# Altium integrated library NSC Temperature Sensor.IntLib: 347 symbols (part 3 of 9)
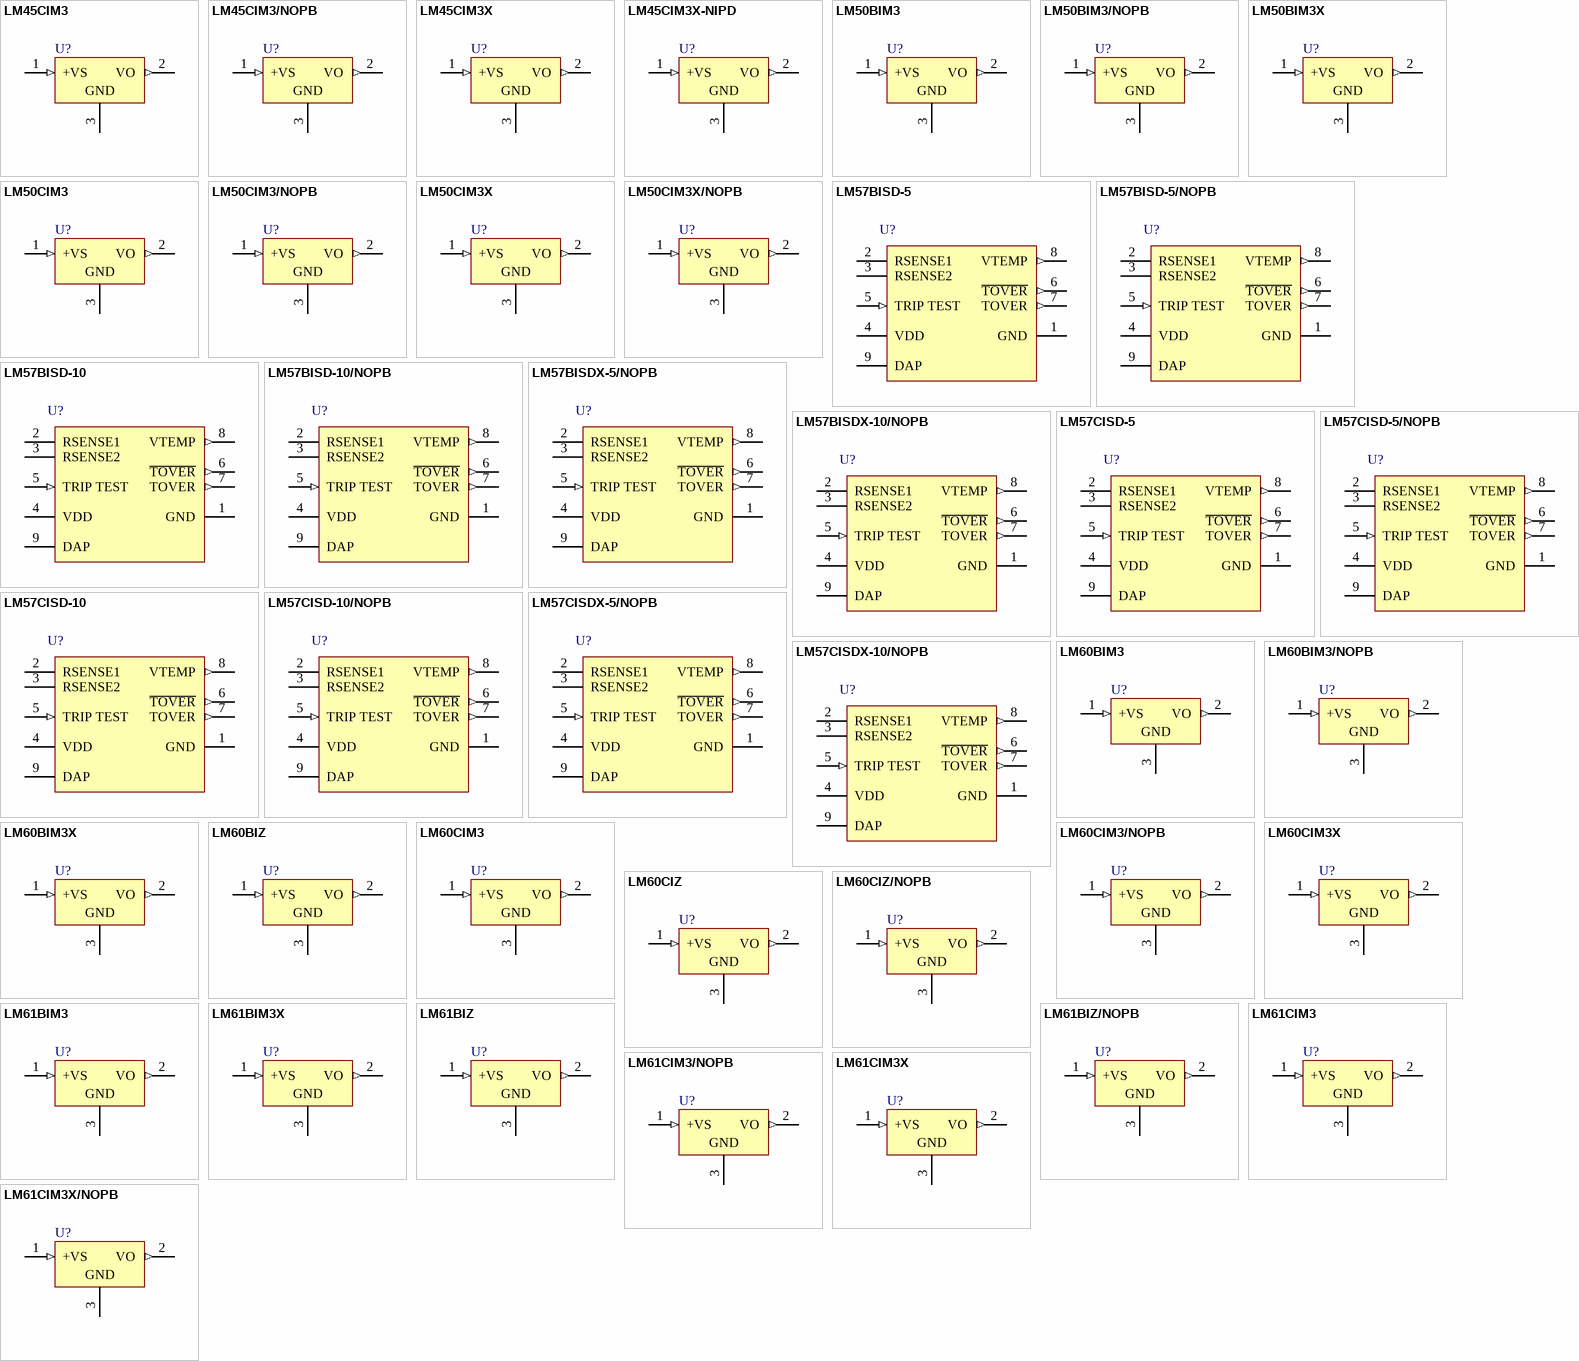
[diagram p11: symbols LM45CIM3 to LM61CIM3X/NOPB]

## LM45CIM3X-NIPD
designator U?
Precision Centigrade Temperature Sensor, 3-pin SOT-23; PartNumber: LM45CIM3X-NIPD; Manufacturer: National Semiconductor; PackageTopMarking: T4N*XTT; PowerWise: N; CompType: Temp Sensor IC; Published: 4-Dec-2008; DatasheetVersion: Aug-2005; PackageVersion: revB, Mar-2003; PackageReference: MF03A; Publisher: Altium Limited; PackageDescription: Molded SOT-23, .115 x .051 x .037in Body, 3 Lead, .075 in Pitch; RoHS: Y; PinCount: 3; ComponentLink1Description: LM45 Datasheet; ComponentLink1URL: http://www.national.com/ds/LM/LM45.pdf; ComponentLink2Description: LM45 Web Page; ComponentLink2URL: http://www.national.com/pf/LM/LM45.html; ComponentLink3Description: MF03A Package Page; ComponentLink3URL: http://www.national.com/packaging/folders/mf03a.html
footprint MF03A_N (SOT23, 3-Leads, Body 2.9x1.3mm, Pitch 0.95mm, Lead Span 2.4mm, IPC Medium Density)
footprint MF03A_L (SOT23, 3-Leads, Body 2.9x1.3mm, Pitch 0.95mm, Lead Span 2.4mm, IPC High Density)
footprint MF03A_M (SOT23, 3-Leads, Body 2.9x1.3mm, Pitch 0.95mm, Lead Span 2.4mm, IPC Low Density)
pins: 1 +VS (in), 2 VO (out), 3 GND (power)

## LM50BIM3
designator U?
Single-Supply Centigrade Temperature Sensor, 3-pin SOT-23; PartNumber: LM50BIM3; Manufacturer: National Semiconductor; PackageTopMarking: T5B*XTT; PowerWise: N; CompType: Temp Sensor IC; Published: 4-Dec-2008; DatasheetVersion: Feb-2006; PackageVersion: revB, Mar-2003; PackageReference: MF03A; Publisher: Altium Limited; PackageDescription: Molded SOT-23, .115 x .051 x .037in Body, 3 Lead, .075 in Pitch; Supplier 1: Digi-Key; Supplier Part Number 1: LM50BIM3-ND; Supplier 2: Farnell; Supplier Part Number 2: 9779884; Supplier 3: Farnell; Supplier Part Number 3: 9779884RL; RoHS: N; PinCount: 3; ComponentLink1Description: LM50 Datasheet; ComponentLink1URL: http://www.national.com/ds/LM/LM50.pdf; ComponentLink2Description: LM50 Web Page; ComponentLink2URL: http://www.national.com/pf/LM/LM50.html; ComponentLink3Description: MF03A Package Page; ComponentLink3URL: http://www.national.com/packaging/folders/mf03a.html
footprint MF03A_N (SOT23, 3-Leads, Body 2.9x1.3mm, Pitch 0.95mm, Lead Span 2.4mm, IPC Medium Density)
footprint MF03A_L (SOT23, 3-Leads, Body 2.9x1.3mm, Pitch 0.95mm, Lead Span 2.4mm, IPC High Density)
footprint MF03A_M (SOT23, 3-Leads, Body 2.9x1.3mm, Pitch 0.95mm, Lead Span 2.4mm, IPC Low Density)
pins: 1 +VS (in), 2 VO (out), 3 GND (power)

## LM50BIM3/NOPB
designator U?
Single-Supply Centigrade Temperature Sensor, 3-pin SOT-23, Pb-Free; PartNumber: LM50BIM3/NOPB; Manufacturer: National Semiconductor; PackageTopMarking: T5B*XTT; PowerWise: N; CompType: Temp Sensor IC; Published: 1-Mar-2010; DatasheetVersion: Feb-2006; PackageVersion: revB, Mar-2003; PackageReference: MF03A; Publisher: Altium Limited; PackageDescription: Molded SOT-23, .115 x .051 x .037in Body, 3 Lead, .075 in Pitch; Supplier 1: Digi-Key; Supplier Part Number 1: LM50BIM3/NOPBTR-ND; Supplier 2: Digi-Key; Supplier Part Number 2: LM50BIM3/NOPBCT-ND; Supplier 3: Digi-Key; Supplier Part Number 3: LM50BIM3/NOPBDKR-ND; Supplier 4: Farnell; Supplier Part Number 4: 1469240; RoHS: Y; PinCount: 3; ComponentLink1Description: LM50 Datasheet; ComponentLink1URL: http://www.national.com/ds/LM/LM50.pdf; ComponentLink2Description: LM50 Web Page; ComponentLink2URL: http://www.national.com/pf/LM/LM50.html; ComponentLink3Description: MF03A Package Page; ComponentLink3URL: http://www.national.com/packaging/folders/mf03a.html
footprint MF03A_N (SOT23, 3-Leads, Body 2.9x1.3mm, Pitch 0.95mm, Lead Span 2.4mm, IPC Medium Density)
footprint MF03A_L (SOT23, 3-Leads, Body 2.9x1.3mm, Pitch 0.95mm, Lead Span 2.4mm, IPC High Density)
footprint MF03A_M (SOT23, 3-Leads, Body 2.9x1.3mm, Pitch 0.95mm, Lead Span 2.4mm, IPC Low Density)
pins: 1 +VS (in), 2 VO (out), 3 GND (power)

## LM50BIM3X
designator U?
Single-Supply Centigrade Temperature Sensor, 3-pin SOT-23; PartNumber: LM50BIM3X; Manufacturer: National Semiconductor; PackageTopMarking: T5B*XTT; PowerWise: N; CompType: Temp Sensor IC; Published: 1-Mar-2010; DatasheetVersion: Feb-2006; PackageVersion: revB, Mar-2003; PackageReference: MF03A; Publisher: Altium Limited; PackageDescription: Molded SOT-23, .115 x .051 x .037in Body, 3 Lead, .075 in Pitch; Supplier 1: Digi-Key; Supplier Part Number 1: LM50BIM3XTR-ND; Supplier 2: Digi-Key; Supplier Part Number 2: LM50BIM3XCT-ND; RoHS: N; PinCount: 3; ComponentLink1Description: LM50 Datasheet; ComponentLink1URL: http://www.national.com/ds/LM/LM50.pdf; ComponentLink2Description: LM50 Web Page; ComponentLink2URL: http://www.national.com/pf/LM/LM50.html; ComponentLink3Description: MF03A Package Page; ComponentLink3URL: http://www.national.com/packaging/folders/mf03a.html
footprint MF03A_N (SOT23, 3-Leads, Body 2.9x1.3mm, Pitch 0.95mm, Lead Span 2.4mm, IPC Medium Density)
footprint MF03A_L (SOT23, 3-Leads, Body 2.9x1.3mm, Pitch 0.95mm, Lead Span 2.4mm, IPC High Density)
footprint MF03A_M (SOT23, 3-Leads, Body 2.9x1.3mm, Pitch 0.95mm, Lead Span 2.4mm, IPC Low Density)
pins: 1 +VS (in), 2 VO (out), 3 GND (power)

## LM50CIM3
designator U?
Single-Supply Centigrade Temperature Sensor, 3-pin SOT-23; PartNumber: LM50CIM3; Manufacturer: National Semiconductor; PackageTopMarking: T5C*XTT; PowerWise: N; CompType: Temp Sensor IC; Published: 4-Dec-2008; DatasheetVersion: Feb-2006; PackageVersion: revB, Mar-2003; PackageReference: MF03A; Publisher: Altium Limited; PackageDescription: Molded SOT-23, .115 x .051 x .037in Body, 3 Lead, .075 in Pitch; Supplier 1: Farnell; Supplier Part Number 1: 9779620; Supplier 2: Farnell; Supplier Part Number 2: 9779620RL; RoHS: N; PinCount: 3; ComponentLink1Description: LM50 Datasheet; ComponentLink1URL: http://www.national.com/ds/LM/LM50.pdf; ComponentLink2Description: LM50 Web Page; ComponentLink2URL: http://www.national.com/pf/LM/LM50.html; ComponentLink3Description: MF03A Package Page; ComponentLink3URL: http://www.national.com/packaging/folders/mf03a.html
footprint MF03A_N (SOT23, 3-Leads, Body 2.9x1.3mm, Pitch 0.95mm, Lead Span 2.4mm, IPC Medium Density)
footprint MF03A_L (SOT23, 3-Leads, Body 2.9x1.3mm, Pitch 0.95mm, Lead Span 2.4mm, IPC High Density)
footprint MF03A_M (SOT23, 3-Leads, Body 2.9x1.3mm, Pitch 0.95mm, Lead Span 2.4mm, IPC Low Density)
pins: 1 +VS (in), 2 VO (out), 3 GND (power)

## LM50CIM3/NOPB
designator U?
Single-Supply Centigrade Temperature Sensor, 3-pin SOT-23, Pb-Free; PartNumber: LM50CIM3/NOPB; Manufacturer: National Semiconductor; PackageTopMarking: T5C*XTT; PowerWise: N; CompType: Temp Sensor IC; Published: 1-Mar-2010; DatasheetVersion: Feb-2006; PackageVersion: revB, Mar-2003; PackageReference: MF03A; Publisher: Altium Limited; PackageDescription: Molded SOT-23, .115 x .051 x .037in Body, 3 Lead, .075 in Pitch; Supplier 1: Digi-Key; Supplier Part Number 1: LM50CIM3TR-ND; Supplier 2: Digi-Key; Supplier Part Number 2: LM50CIM3CT-ND; Supplier 3: Digi-Key; Supplier Part Number 3: LM50CIM3DKR-ND; Supplier 4: Farnell; Supplier Part Number 4: 1469220; RoHS: Y; PinCount: 3; ComponentLink1Description: LM50 Datasheet; ComponentLink1URL: http://www.national.com/ds/LM/LM50.pdf; ComponentLink2Description: LM50 Web Page; ComponentLink2URL: http://www.national.com/pf/LM/LM50.html; ComponentLink3Description: MF03A Package Page; ComponentLink3URL: http://www.national.com/packaging/folders/mf03a.html
footprint MF03A_N (SOT23, 3-Leads, Body 2.9x1.3mm, Pitch 0.95mm, Lead Span 2.4mm, IPC Medium Density)
footprint MF03A_L (SOT23, 3-Leads, Body 2.9x1.3mm, Pitch 0.95mm, Lead Span 2.4mm, IPC High Density)
footprint MF03A_M (SOT23, 3-Leads, Body 2.9x1.3mm, Pitch 0.95mm, Lead Span 2.4mm, IPC Low Density)
pins: 1 +VS (in), 2 VO (out), 3 GND (power)

## LM50CIM3X
designator U?
Single-Supply Centigrade Temperature Sensor, 3-pin SOT-23; PartNumber: LM50CIM3X; Manufacturer: National Semiconductor; PackageTopMarking: T5C*XTT; PowerWise: N; CompType: Temp Sensor IC; Published: 1-Mar-2010; DatasheetVersion: Feb-2006; PackageVersion: revB, Mar-2003; PackageReference: MF03A; Publisher: Altium Limited; PackageDescription: Molded SOT-23, .115 x .051 x .037in Body, 3 Lead, .075 in Pitch; RoHS: N; PinCount: 3; ComponentLink1Description: LM50 Datasheet; ComponentLink1URL: http://www.national.com/ds/LM/LM50.pdf; ComponentLink2Description: LM50 Web Page; ComponentLink2URL: http://www.national.com/pf/LM/LM50.html; ComponentLink3Description: MF03A Package Page; ComponentLink3URL: http://www.national.com/packaging/folders/mf03a.html
footprint MF03A_N (SOT23, 3-Leads, Body 2.9x1.3mm, Pitch 0.95mm, Lead Span 2.4mm, IPC Medium Density)
footprint MF03A_L (SOT23, 3-Leads, Body 2.9x1.3mm, Pitch 0.95mm, Lead Span 2.4mm, IPC High Density)
footprint MF03A_M (SOT23, 3-Leads, Body 2.9x1.3mm, Pitch 0.95mm, Lead Span 2.4mm, IPC Low Density)
pins: 1 +VS (in), 2 VO (out), 3 GND (power)

## LM50CIM3X/NOPB
designator U?
Single-Supply Centigrade Temperature Sensor, 3-pin SOT-23, Pb-Free; PartNumber: LM50CIM3X/NOPB; Manufacturer: National Semiconductor; PackageTopMarking: T5C*XTT; PowerWise: N; CompType: Temp Sensor IC; Published: 1-Mar-2010; DatasheetVersion: Feb-2006; PackageVersion: revB, Mar-2003; PackageReference: MF03A; Publisher: Altium Limited; PackageDescription: Molded SOT-23, .115 x .051 x .037in Body, 3 Lead, .075 in Pitch; Supplier 1: Digi-Key; Supplier Part Number 1: LM50CIM3X-ND; Supplier 2: Farnell; Supplier Part Number 2: 1496178; RoHS: Y; PinCount: 3; ComponentLink1Description: LM50 Datasheet; ComponentLink1URL: http://www.national.com/ds/LM/LM50.pdf; ComponentLink2Description: LM50 Web Page; ComponentLink2URL: http://www.national.com/pf/LM/LM50.html; ComponentLink3Description: MF03A Package Page; ComponentLink3URL: http://www.national.com/packaging/folders/mf03a.html
footprint MF03A_N (SOT23, 3-Leads, Body 2.9x1.3mm, Pitch 0.95mm, Lead Span 2.4mm, IPC Medium Density)
footprint MF03A_L (SOT23, 3-Leads, Body 2.9x1.3mm, Pitch 0.95mm, Lead Span 2.4mm, IPC High Density)
footprint MF03A_M (SOT23, 3-Leads, Body 2.9x1.3mm, Pitch 0.95mm, Lead Span 2.4mm, IPC Low Density)
pins: 1 +VS (in), 2 VO (out), 3 GND (power)

## LM57BISD-5
designator U?
Resistor-Programmable Temperature Switch and Analog Temperature Sensor, 9-pin LLP; PartNumber: LM57BISD-5; Manufacturer: National Semiconductor; PackageTopMarking: XYTT*57B5; PowerWise: Y; CompType: Temp Sensor IC; Published: 9-Oct-2009; DatasheetVersion: Feb-2010; PackageVersion: revA, Nov-2003; PackageReference: SDA08B; Publisher: Altium Limited; PackageDescription: LLP, Plastic, Dual, 2.5 x 2.5 x 0.8mm Body, 8 Lead, 0.5mm Pitch, No Pullback; RoHS: Y; PinCount: 8; ComponentLink1Description: LM57 Datasheet; ComponentLink1URL: http://www.national.com/ds/LM/LM57.pdf; ComponentLink2Description: LM57 Web Page; ComponentLink2URL: http://www.national.com/pf/LM/LM57.html; ComponentLink3Description: SDA08B Package Page; ComponentLink3URL: http://www.national.com/packaging/folders/sda08b.html
footprint SDA08B (SON, 8-Leads, Body 2.5x2.5mm, Pitch 0.5mm, NSC Recommended)
pins: 1 GND (power), 2 RSENSE1, 3 RSENSE2, 4 VDD (power), 5 TRIP TEST (in), 6 ~{TOVER} (out), 7 TOVER (out), 8 VTEMP (out), 9 DAP

## LM57BISD-5/NOPB
designator U?
Resistor-Programmable Temperature Switch and Analog Temperature Sensor, 8-pin LLP, Pb-Free; PartNumber: LM57BISD-5/NOPB; Manufacturer: National Semiconductor; PackageTopMarking: XYTT*57B5; PowerWise: Y; CompType: Temp Sensor IC; Published: 1-Mar-2010; DatasheetVersion: Feb-2010; PackageVersion: revA, Nov-2003; PackageReference: SDA08B; Publisher: Altium Limited; PackageDescription: LLP, Plastic, Dual, 2.5 x 2.5 x 0.8mm Body, 8 Lead, 0.5mm Pitch, No Pullback; Supplier 1: Digi-Key; Supplier Part Number 1: LM57BISD-5TR-ND; Supplier 2: Digi-Key; Supplier Part Number 2: LM57BISD-5CT-ND; Supplier 3: Digi-Key; Supplier Part Number 3: LM57BISD-5DKR-ND; Supplier 4: Farnell; Supplier Part Number 4: 1735804; RoHS: Y; PinCount: 8; ComponentLink1Description: LM57 Datasheet; ComponentLink1URL: http://www.national.com/ds/LM/LM57.pdf; ComponentLink2Description: LM57 Web Page; ComponentLink2URL: http://www.national.com/pf/LM/LM57.html; ComponentLink3Description: SDA08B Package Page; ComponentLink3URL: http://www.national.com/packaging/folders/sda08b.html
footprint SDA08B (SON, 8-Leads, Body 2.5x2.5mm, Pitch 0.5mm, NSC Recommended)
pins: 1 GND (power), 2 RSENSE1, 3 RSENSE2, 4 VDD (power), 5 TRIP TEST (in), 6 ~{TOVER} (out), 7 TOVER (out), 8 VTEMP (out), 9 DAP

## LM57BISD-10
designator U?
Resistor-Programmable Temperature Switch and Analog Temperature Sensor, 9-pin LLP; PartNumber: LM57BISD-10; Manufacturer: National Semiconductor; PackageTopMarking: XYTT*57B9; PowerWise: Y; CompType: Temp Sensor IC; Published: 9-Oct-2009; DatasheetVersion: Feb-2010; PackageVersion: revA, Nov-2003; PackageReference: SDA08B; Publisher: Altium Limited; PackageDescription: LLP, Plastic, Dual, 2.5 x 2.5 x 0.8mm Body, 8 Lead, 0.5mm Pitch, No Pullback; RoHS: Y; PinCount: 8; ComponentLink1Description: LM57 Datasheet; ComponentLink1URL: http://www.national.com/ds/LM/LM57.pdf; ComponentLink2Description: LM57 Web Page; ComponentLink2URL: http://www.national.com/pf/LM/LM57.html; ComponentLink3Description: SDA08B Package Page; ComponentLink3URL: http://www.national.com/packaging/folders/sda08b.html
footprint SDA08B (SON, 8-Leads, Body 2.5x2.5mm, Pitch 0.5mm, NSC Recommended)
pins: 1 GND (power), 2 RSENSE1, 3 RSENSE2, 4 VDD (power), 5 TRIP TEST (in), 6 ~{TOVER} (out), 7 TOVER (out), 8 VTEMP (out), 9 DAP

## LM57BISD-10/NOPB
designator U?
Resistor-Programmable Temperature Switch and Analog Temperature Sensor, 8-pin LLP, Pb-Free; PartNumber: LM57BISD-10/NOPB; Manufacturer: National Semiconductor; PackageTopMarking: XYTT*57B9; PowerWise: Y; CompType: Temp Sensor IC; Published: 1-Mar-2010; DatasheetVersion: Feb-2010; PackageVersion: revA, Nov-2003; PackageReference: SDA08B; Publisher: Altium Limited; PackageDescription: LLP, Plastic, Dual, 2.5 x 2.5 x 0.8mm Body, 8 Lead, 0.5mm Pitch, No Pullback; Supplier 1: Digi-Key; Supplier Part Number 1: LM57BISD-10TR-ND; Supplier 2: Digi-Key; Supplier Part Number 2: LM57BISD-10CT-ND; Supplier 3: Digi-Key; Supplier Part Number 3: LM57BISD-10DKR-ND; Supplier 4: Farnell; Supplier Part Number 4: 1735803; RoHS: Y; PinCount: 8; ComponentLink1Description: LM57 Datasheet; ComponentLink1URL: http://www.national.com/ds/LM/LM57.pdf; ComponentLink2Description: LM57 Web Page; ComponentLink2URL: http://www.national.com/pf/LM/LM57.html; ComponentLink3Description: SDA08B Package Page; ComponentLink3URL: http://www.national.com/packaging/folders/sda08b.html
footprint SDA08B (SON, 8-Leads, Body 2.5x2.5mm, Pitch 0.5mm, NSC Recommended)
pins: 1 GND (power), 2 RSENSE1, 3 RSENSE2, 4 VDD (power), 5 TRIP TEST (in), 6 ~{TOVER} (out), 7 TOVER (out), 8 VTEMP (out), 9 DAP

## LM57BISDX-5/NOPB
designator U?
Resistor-Programmable Temperature Switch and Analog Temperature Sensor, 8-pin LLP, Pb-Free; PartNumber: LM57BISDX-5/NOPB; Manufacturer: National Semiconductor; PackageTopMarking: XYTT*57B5; PowerWise: Y; CompType: Temp Sensor IC; Published: 1-Mar-2010; DatasheetVersion: Feb-2010; PackageVersion: revA, Nov-2003; PackageReference: SDA08B; Publisher: Altium Limited; PackageDescription: LLP, Plastic, Dual, 2.5 x 2.5 x 0.8mm Body, 8 Lead, 0.5mm Pitch, No Pullback; Supplier 1: Digi-Key; Supplier Part Number 1: LM57BISDX-5-ND; RoHS: Y; PinCount: 8; ComponentLink1Description: LM57 Datasheet; ComponentLink1URL: http://www.national.com/ds/LM/LM57.pdf; ComponentLink2Description: LM57 Web Page; ComponentLink2URL: http://www.national.com/pf/LM/LM57.html; ComponentLink3Description: SDA08B Package Page; ComponentLink3URL: http://www.national.com/packaging/folders/sda08b.html
footprint SDA08B (SON, 8-Leads, Body 2.5x2.5mm, Pitch 0.5mm, NSC Recommended)
pins: 1 GND (power), 2 RSENSE1, 3 RSENSE2, 4 VDD (power), 5 TRIP TEST (in), 6 ~{TOVER} (out), 7 TOVER (out), 8 VTEMP (out), 9 DAP

## LM57BISDX-10/NOPB
designator U?
Resistor-Programmable Temperature Switch and Analog Temperature Sensor, 8-pin LLP, Pb-Free; PartNumber: LM57BISDX-10/NOPB; Manufacturer: National Semiconductor; PackageTopMarking: XYTT*57B9; PowerWise: Y; CompType: Temp Sensor IC; Published: 1-Mar-2010; DatasheetVersion: Feb-2010; PackageVersion: revA, Nov-2003; PackageReference: SDA08B; Publisher: Altium Limited; PackageDescription: LLP, Plastic, Dual, 2.5 x 2.5 x 0.8mm Body, 8 Lead, 0.5mm Pitch, No Pullback; Supplier 1: Digi-Key; Supplier Part Number 1: LM57BISDX-10-ND; RoHS: Y; PinCount: 8; ComponentLink1Description: LM57 Datasheet; ComponentLink1URL: http://www.national.com/ds/LM/LM57.pdf; ComponentLink2Description: LM57 Web Page; ComponentLink2URL: http://www.national.com/pf/LM/LM57.html; ComponentLink3Description: SDA08B Package Page; ComponentLink3URL: http://www.national.com/packaging/folders/sda08b.html
footprint SDA08B (SON, 8-Leads, Body 2.5x2.5mm, Pitch 0.5mm, NSC Recommended)
pins: 1 GND (power), 2 RSENSE1, 3 RSENSE2, 4 VDD (power), 5 TRIP TEST (in), 6 ~{TOVER} (out), 7 TOVER (out), 8 VTEMP (out), 9 DAP

## LM57CISD-5
designator U?
Resistor-Programmable Temperature Switch and Analog Temperature Sensor, 9-pin LLP; PartNumber: LM57CISD-5; Manufacturer: National Semiconductor; PackageTopMarking: XYTT*57C5; PowerWise: Y; CompType: Temp Sensor IC; Published: 9-Oct-2009; DatasheetVersion: Feb-2010; PackageVersion: revA, Nov-2003; PackageReference: SDA08B; Publisher: Altium Limited; PackageDescription: LLP, Plastic, Dual, 2.5 x 2.5 x 0.8mm Body, 8 Lead, 0.5mm Pitch, No Pullback; RoHS: Y; PinCount: 8; ComponentLink1Description: LM57 Datasheet; ComponentLink1URL: http://www.national.com/ds/LM/LM57.pdf; ComponentLink2Description: LM57 Web Page; ComponentLink2URL: http://www.national.com/pf/LM/LM57.html; ComponentLink3Description: SDA08B Package Page; ComponentLink3URL: http://www.national.com/packaging/folders/sda08b.html
footprint SDA08B (SON, 8-Leads, Body 2.5x2.5mm, Pitch 0.5mm, NSC Recommended)
pins: 1 GND (power), 2 RSENSE1, 3 RSENSE2, 4 VDD (power), 5 TRIP TEST (in), 6 ~{TOVER} (out), 7 TOVER (out), 8 VTEMP (out), 9 DAP

## LM57CISD-5/NOPB
designator U?
Resistor-Programmable Temperature Switch and Analog Temperature Sensor, 8-pin LLP, Pb-Free; PartNumber: LM57CISD-5/NOPB; Manufacturer: National Semiconductor; PackageTopMarking: XYTT*57C5; PowerWise: Y; CompType: Temp Sensor IC; Published: 1-Mar-2010; DatasheetVersion: Feb-2010; PackageVersion: revA, Nov-2003; PackageReference: SDA08B; Publisher: Altium Limited; PackageDescription: LLP, Plastic, Dual, 2.5 x 2.5 x 0.8mm Body, 8 Lead, 0.5mm Pitch, No Pullback; Supplier 1: Digi-Key; Supplier Part Number 1: LM57CISD-5TR-ND; Supplier 2: Digi-Key; Supplier Part Number 2: LM57CISD-5CT-ND; Supplier 3: Digi-Key; Supplier Part Number 3: LM57CISD-5DKR-ND; RoHS: Y; PinCount: 8; ComponentLink1Description: LM57 Datasheet; ComponentLink1URL: http://www.national.com/ds/LM/LM57.pdf; ComponentLink2Description: LM57 Web Page; ComponentLink2URL: http://www.national.com/pf/LM/LM57.html; ComponentLink3Description: SDA08B Package Page; ComponentLink3URL: http://www.national.com/packaging/folders/sda08b.html
footprint SDA08B (SON, 8-Leads, Body 2.5x2.5mm, Pitch 0.5mm, NSC Recommended)
pins: 1 GND (power), 2 RSENSE1, 3 RSENSE2, 4 VDD (power), 5 TRIP TEST (in), 6 ~{TOVER} (out), 7 TOVER (out), 8 VTEMP (out), 9 DAP

## LM57CISD-10
designator U?
Resistor-Programmable Temperature Switch and Analog Temperature Sensor, 9-pin LLP; PartNumber: LM57CISD-10; Manufacturer: National Semiconductor; PackageTopMarking: XYTT*57C9; PowerWise: Y; CompType: Temp Sensor IC; Published: 9-Oct-2009; DatasheetVersion: Feb-2010; PackageVersion: revA, Nov-2003; PackageReference: SDA08B; Publisher: Altium Limited; PackageDescription: LLP, Plastic, Dual, 2.5 x 2.5 x 0.8mm Body, 8 Lead, 0.5mm Pitch, No Pullback; RoHS: Y; PinCount: 8; ComponentLink1Description: LM57 Datasheet; ComponentLink1URL: http://www.national.com/ds/LM/LM57.pdf; ComponentLink2Description: LM57 Web Page; ComponentLink2URL: http://www.national.com/pf/LM/LM57.html; ComponentLink3Description: SDA08B Package Page; ComponentLink3URL: http://www.national.com/packaging/folders/sda08b.html
footprint SDA08B (SON, 8-Leads, Body 2.5x2.5mm, Pitch 0.5mm, NSC Recommended)
pins: 1 GND (power), 2 RSENSE1, 3 RSENSE2, 4 VDD (power), 5 TRIP TEST (in), 6 ~{TOVER} (out), 7 TOVER (out), 8 VTEMP (out), 9 DAP

## LM57CISD-10/NOPB
designator U?
Resistor-Programmable Temperature Switch and Analog Temperature Sensor, 8-pin LLP, Pb-Free; PartNumber: LM57CISD-10/NOPB; Manufacturer: National Semiconductor; PackageTopMarking: XYTT*57C9; PowerWise: Y; CompType: Temp Sensor IC; Published: 1-Mar-2010; DatasheetVersion: Feb-2010; PackageVersion: revA, Nov-2003; PackageReference: SDA08B; Publisher: Altium Limited; PackageDescription: LLP, Plastic, Dual, 2.5 x 2.5 x 0.8mm Body, 8 Lead, 0.5mm Pitch, No Pullback; Supplier 1: Digi-Key; Supplier Part Number 1: LM57CISD-10TR-ND; Supplier 2: Digi-Key; Supplier Part Number 2: LM57CISD-10CT-ND; Supplier 3: Digi-Key; Supplier Part Number 3: LM57CISD-10DKR-ND; RoHS: Y; PinCount: 8; ComponentLink1Description: LM57 Datasheet; ComponentLink1URL: http://www.national.com/ds/LM/LM57.pdf; ComponentLink2Description: LM57 Web Page; ComponentLink2URL: http://www.national.com/pf/LM/LM57.html; ComponentLink3Description: SDA08B Package Page; ComponentLink3URL: http://www.national.com/packaging/folders/sda08b.html
footprint SDA08B (SON, 8-Leads, Body 2.5x2.5mm, Pitch 0.5mm, NSC Recommended)
pins: 1 GND (power), 2 RSENSE1, 3 RSENSE2, 4 VDD (power), 5 TRIP TEST (in), 6 ~{TOVER} (out), 7 TOVER (out), 8 VTEMP (out), 9 DAP

## LM57CISDX-5/NOPB
designator U?
Resistor-Programmable Temperature Switch and Analog Temperature Sensor, 8-pin LLP, Pb-Free; PartNumber: LM57CISDX-5/NOPB; Manufacturer: National Semiconductor; PackageTopMarking: XYTT*57C5; PowerWise: Y; CompType: Temp Sensor IC; Published: 1-Mar-2010; DatasheetVersion: Feb-2010; PackageVersion: revA, Nov-2003; PackageReference: SDA08B; Publisher: Altium Limited; PackageDescription: LLP, Plastic, Dual, 2.5 x 2.5 x 0.8mm Body, 8 Lead, 0.5mm Pitch, No Pullback; Supplier 1: Digi-Key; Supplier Part Number 1: LM57CISDX-5-ND; RoHS: Y; PinCount: 8; ComponentLink1Description: LM57 Datasheet; ComponentLink1URL: http://www.national.com/ds/LM/LM57.pdf; ComponentLink2Description: LM57 Web Page; ComponentLink2URL: http://www.national.com/pf/LM/LM57.html; ComponentLink3Description: SDA08B Package Page; ComponentLink3URL: http://www.national.com/packaging/folders/sda08b.html
footprint SDA08B (SON, 8-Leads, Body 2.5x2.5mm, Pitch 0.5mm, NSC Recommended)
pins: 1 GND (power), 2 RSENSE1, 3 RSENSE2, 4 VDD (power), 5 TRIP TEST (in), 6 ~{TOVER} (out), 7 TOVER (out), 8 VTEMP (out), 9 DAP

## LM57CISDX-10/NOPB
designator U?
Resistor-Programmable Temperature Switch and Analog Temperature Sensor, 8-pin LLP, Pb-Free; PartNumber: LM57CISDX-10/NOPB; Manufacturer: National Semiconductor; PackageTopMarking: XYTT*57C9; PowerWise: Y; CompType: Temp Sensor IC; Published: 1-Mar-2010; DatasheetVersion: Feb-2010; PackageVersion: revA, Nov-2003; PackageReference: SDA08B; Publisher: Altium Limited; PackageDescription: LLP, Plastic, Dual, 2.5 x 2.5 x 0.8mm Body, 8 Lead, 0.5mm Pitch, No Pullback; Supplier 1: Digi-Key; Supplier Part Number 1: LM57CISDX-10-ND; RoHS: Y; PinCount: 8; ComponentLink1Description: LM57 Datasheet; ComponentLink1URL: http://www.national.com/ds/LM/LM57.pdf; ComponentLink2Description: LM57 Web Page; ComponentLink2URL: http://www.national.com/pf/LM/LM57.html; ComponentLink3Description: SDA08B Package Page; ComponentLink3URL: http://www.national.com/packaging/folders/sda08b.html
footprint SDA08B (SON, 8-Leads, Body 2.5x2.5mm, Pitch 0.5mm, NSC Recommended)
pins: 1 GND (power), 2 RSENSE1, 3 RSENSE2, 4 VDD (power), 5 TRIP TEST (in), 6 ~{TOVER} (out), 7 TOVER (out), 8 VTEMP (out), 9 DAP

## LM60BIM3
designator U?
2.7V Temperature Sensor, 3-pin SOT-23; PartNumber: LM60BIM3; Manufacturer: National Semiconductor; PackageTopMarking: T6B*XTT; PowerWise: N; CompType: Temp Sensor IC; Published: 4-Dec-2008; DatasheetVersion: Feb-2010; PackageVersion: revB, Mar-2003; PackageReference: MF03A; Publisher: Altium Limited; PackageDescription: Molded SOT-23, .115 x .051 x .037in Body, 3 Lead, .075 in Pitch; Supplier 1: Digi-Key; Supplier Part Number 1: LM60BIM3TR-ND; Supplier 2: Digi-Key; Supplier Part Number 2: LM60BIM3CT-ND; Supplier 3: Farnell; Supplier Part Number 3: 9779132; Supplier 4: Farnell; Supplier Part Number 4: 9779132RL; RoHS: N; PinCount: 3; ComponentLink1Description: LM60 Datasheet; ComponentLink1URL: http://www.national.com/ds/LM/LM60.pdf; ComponentLink2Description: LM60 Web Page; ComponentLink2URL: http://www.national.com/pf/LM/LM60.html; ComponentLink3Description: MF03A Package Page; ComponentLink3URL: http://www.national.com/packaging/folders/mf03a.html
footprint MF03A_N (SOT23, 3-Leads, Body 2.9x1.3mm, Pitch 0.95mm, Lead Span 2.4mm, IPC Medium Density)
footprint MF03A_L (SOT23, 3-Leads, Body 2.9x1.3mm, Pitch 0.95mm, Lead Span 2.4mm, IPC High Density)
footprint MF03A_M (SOT23, 3-Leads, Body 2.9x1.3mm, Pitch 0.95mm, Lead Span 2.4mm, IPC Low Density)
pins: 1 +VS (in), 2 VO (out), 3 GND (power)

## LM60BIM3/NOPB
designator U?
2.7V Temperature Sensor, 3-pin SOT-23, Pb-Free; PartNumber: LM60BIM3/NOPB; Manufacturer: National Semiconductor; PackageTopMarking: T6B*XTT; PowerWise: N; CompType: Temp Sensor IC; Published: 1-Mar-2010; DatasheetVersion: Feb-2010; PackageVersion: revB, Mar-2003; PackageReference: MF03A; Publisher: Altium Limited; PackageDescription: Molded SOT-23, .115 x .051 x .037in Body, 3 Lead, .075 in Pitch; Supplier 1: Digi-Key; Supplier Part Number 1: LM60BIM3/NOPBTR-ND; Supplier 2: Digi-Key; Supplier Part Number 2: LM60BIM3/NOPBCT-ND; Supplier 3: Digi-Key; Supplier Part Number 3: LM60BIM3/NOPBDKR-ND; Supplier 4: Farnell; Supplier Part Number 4: 1202983; RoHS: Y; PinCount: 3; ComponentLink1Description: LM60 Datasheet; ComponentLink1URL: http://www.national.com/ds/LM/LM60.pdf; ComponentLink2Description: LM60 Web Page; ComponentLink2URL: http://www.national.com/pf/LM/LM60.html; ComponentLink3Description: MF03A Package Page; ComponentLink3URL: http://www.national.com/packaging/folders/mf03a.html
footprint MF03A_N (SOT23, 3-Leads, Body 2.9x1.3mm, Pitch 0.95mm, Lead Span 2.4mm, IPC Medium Density)
footprint MF03A_L (SOT23, 3-Leads, Body 2.9x1.3mm, Pitch 0.95mm, Lead Span 2.4mm, IPC High Density)
footprint MF03A_M (SOT23, 3-Leads, Body 2.9x1.3mm, Pitch 0.95mm, Lead Span 2.4mm, IPC Low Density)
pins: 1 +VS (in), 2 VO (out), 3 GND (power)

## LM60BIM3X
designator U?
2.7V Temperature Sensor, 3-pin SOT-23; PartNumber: LM60BIM3X; Manufacturer: National Semiconductor; PackageTopMarking: T6B*XTT; PowerWise: N; CompType: Temp Sensor IC; Published: 1-Mar-2010; DatasheetVersion: Feb-2010; PackageVersion: revB, Mar-2003; PackageReference: MF03A; Publisher: Altium Limited; PackageDescription: Molded SOT-23, .115 x .051 x .037in Body, 3 Lead, .075 in Pitch; Supplier 1: Digi-Key; Supplier Part Number 1: LM60BIM3X-ND; RoHS: N; PinCount: 3; ComponentLink1Description: LM60 Datasheet; ComponentLink1URL: http://www.national.com/ds/LM/LM60.pdf; ComponentLink2Description: LM60 Web Page; ComponentLink2URL: http://www.national.com/pf/LM/LM60.html; ComponentLink3Description: MF03A Package Page; ComponentLink3URL: http://www.national.com/packaging/folders/mf03a.html
footprint MF03A_N (SOT23, 3-Leads, Body 2.9x1.3mm, Pitch 0.95mm, Lead Span 2.4mm, IPC Medium Density)
footprint MF03A_L (SOT23, 3-Leads, Body 2.9x1.3mm, Pitch 0.95mm, Lead Span 2.4mm, IPC High Density)
footprint MF03A_M (SOT23, 3-Leads, Body 2.9x1.3mm, Pitch 0.95mm, Lead Span 2.4mm, IPC Low Density)
pins: 1 +VS (in), 2 VO (out), 3 GND (power)

## LM60BIZ
designator U?
2.7V Temperature Sensor, 3-pin TO-92; PartNumber: LM60BIZ; Manufacturer: National Semiconductor; PackageTopMarking: NSXYTT*LM60*BIZ; PowerWise: N; CompType: Temp Sensor IC; Published: 4-Dec-2008; LatestRevisionDate: 15-Jul-2009; LatestRevisionNote: Sch pins 1 & 3 reversed; DatasheetVersion: Feb-2010; PackageVersion: revG, Sep-2000; PackageReference: Z03A; Publisher: Altium Limited; PackageDescription: TO-92, Molded, 3 Lead; Supplier 1: Farnell; Supplier Part Number 1: 9489657; RoHS: N; PinCount: 3; Code_JEDEC: TO-226-AA; ComponentLink1Description: LM60 Datasheet; ComponentLink1URL: http://www.national.com/ds/LM/LM60.pdf; ComponentLink2Description: LM60 Web Page; ComponentLink2URL: http://www.national.com/pf/LM/LM60.html; ComponentLink3Description: Z03A Package Page; ComponentLink3URL: http://www.national.com/packaging/folders/z03a.html
footprint Z03A (TO, Flat Index; 3 In-Line, Axial Leads; Body Dia. 5mm; Leads 0.55 x 0.50 mm (max))
pins: 1 +VS (in), 2 VO (out), 3 GND (power)

## LM60CIM3
designator U?
2.7V Temperature Sensor, 3-pin SOT-23; PartNumber: LM60CIM3; Manufacturer: National Semiconductor; PackageTopMarking: T6C*XTT; PowerWise: N; CompType: Temp Sensor IC; Published: 4-Dec-2008; DatasheetVersion: Feb-2010; PackageVersion: revB, Mar-2003; PackageReference: MF03A; Publisher: Altium Limited; PackageDescription: Molded SOT-23, .115 x .051 x .037in Body, 3 Lead, .075 in Pitch; Supplier 1: Farnell; Supplier Part Number 1: 9779698RL; Supplier 2: Farnell; Supplier Part Number 2: 9779698; RoHS: N; PinCount: 3; ComponentLink1Description: LM60 Datasheet; ComponentLink1URL: http://www.national.com/ds/LM/LM60.pdf; ComponentLink2Description: LM60 Web Page; ComponentLink2URL: http://www.national.com/pf/LM/LM60.html; ComponentLink3Description: MF03A Package Page; ComponentLink3URL: http://www.national.com/packaging/folders/mf03a.html
footprint MF03A_N (SOT23, 3-Leads, Body 2.9x1.3mm, Pitch 0.95mm, Lead Span 2.4mm, IPC Medium Density)
footprint MF03A_L (SOT23, 3-Leads, Body 2.9x1.3mm, Pitch 0.95mm, Lead Span 2.4mm, IPC High Density)
footprint MF03A_M (SOT23, 3-Leads, Body 2.9x1.3mm, Pitch 0.95mm, Lead Span 2.4mm, IPC Low Density)
pins: 1 +VS (in), 2 VO (out), 3 GND (power)

## LM60CIM3/NOPB
designator U?
2.7V Temperature Sensor, 3-pin SOT-23, Pb-Free; PartNumber: LM60CIM3/NOPB; Manufacturer: National Semiconductor; PackageTopMarking: T6C*XTT; PowerWise: N; CompType: Temp Sensor IC; Published: 1-Mar-2010; DatasheetVersion: Feb-2010; PackageVersion: revB, Mar-2003; PackageReference: MF03A; Publisher: Altium Limited; PackageDescription: Molded SOT-23, .115 x .051 x .037in Body, 3 Lead, .075 in Pitch; Supplier 1: Digi-Key; Supplier Part Number 1: LM60CIM3TR-ND; Supplier 2: Digi-Key; Supplier Part Number 2: LM60CIM3CT-ND; Supplier 3: Digi-Key; Supplier Part Number 3: LM60CIM3DKR-ND; Supplier 4: Farnell; Supplier Part Number 4: 1469242; RoHS: Y; PinCount: 3; ComponentLink1Description: LM60 Datasheet; ComponentLink1URL: http://www.national.com/ds/LM/LM60.pdf; ComponentLink2Description: LM60 Web Page; ComponentLink2URL: http://www.national.com/pf/LM/LM60.html; ComponentLink3Description: MF03A Package Page; ComponentLink3URL: http://www.national.com/packaging/folders/mf03a.html
footprint MF03A_N (SOT23, 3-Leads, Body 2.9x1.3mm, Pitch 0.95mm, Lead Span 2.4mm, IPC Medium Density)
footprint MF03A_L (SOT23, 3-Leads, Body 2.9x1.3mm, Pitch 0.95mm, Lead Span 2.4mm, IPC High Density)
footprint MF03A_M (SOT23, 3-Leads, Body 2.9x1.3mm, Pitch 0.95mm, Lead Span 2.4mm, IPC Low Density)
pins: 1 +VS (in), 2 VO (out), 3 GND (power)

## LM60CIM3X
designator U?
2.7V Temperature Sensor, 3-pin SOT-23; PartNumber: LM60CIM3X; Manufacturer: National Semiconductor; PackageTopMarking: T6C*XTT; PowerWise: N; CompType: Temp Sensor IC; Published: 1-Mar-2010; DatasheetVersion: Feb-2010; PackageVersion: revB, Mar-2003; PackageReference: MF03A; Publisher: Altium Limited; PackageDescription: Molded SOT-23, .115 x .051 x .037in Body, 3 Lead, .075 in Pitch; RoHS: N; PinCount: 3; ComponentLink1Description: LM60 Datasheet; ComponentLink1URL: http://www.national.com/ds/LM/LM60.pdf; ComponentLink2Description: LM60 Web Page; ComponentLink2URL: http://www.national.com/pf/LM/LM60.html; ComponentLink3Description: MF03A Package Page; ComponentLink3URL: http://www.national.com/packaging/folders/mf03a.html
footprint MF03A_N (SOT23, 3-Leads, Body 2.9x1.3mm, Pitch 0.95mm, Lead Span 2.4mm, IPC Medium Density)
footprint MF03A_L (SOT23, 3-Leads, Body 2.9x1.3mm, Pitch 0.95mm, Lead Span 2.4mm, IPC High Density)
footprint MF03A_M (SOT23, 3-Leads, Body 2.9x1.3mm, Pitch 0.95mm, Lead Span 2.4mm, IPC Low Density)
pins: 1 +VS (in), 2 VO (out), 3 GND (power)

## LM60CIZ
designator U?
2.7V Temperature Sensor, 3-pin TO-92; PartNumber: LM60CIZ; Manufacturer: National Semiconductor; PackageTopMarking: NSXYTT*LM60*CIZ; PowerWise: N; CompType: Temp Sensor IC; Published: 4-Dec-2008; LatestRevisionDate: 15-Jul-2009; LatestRevisionNote: Sch pins 1 & 3 reversed; DatasheetVersion: Feb-2010; PackageVersion: revG, Sep-2000; PackageReference: Z03A; Publisher: Altium Limited; PackageDescription: TO-92, Molded, 3 Lead; Supplier 1: Farnell; Supplier Part Number 1: 9489665; RoHS: N; PinCount: 3; Code_JEDEC: TO-226-AA; ComponentLink1Description: LM60 Datasheet; ComponentLink1URL: http://www.national.com/ds/LM/LM60.pdf; ComponentLink2Description: LM60 Web Page; ComponentLink2URL: http://www.national.com/pf/LM/LM60.html; ComponentLink3Description: Z03A Package Page; ComponentLink3URL: http://www.national.com/packaging/folders/z03a.html
footprint Z03A (TO, Flat Index; 3 In-Line, Axial Leads; Body Dia. 5mm; Leads 0.55 x 0.50 mm (max))
pins: 1 +VS (in), 2 VO (out), 3 GND (power)

## LM60CIZ/NOPB
designator U?
2.7V Temperature Sensor, 3-pin TO-92, Pb-Free; PartNumber: LM60CIZ/NOPB; Manufacturer: National Semiconductor; PackageTopMarking: NSXYTT*LM60*CIZ; PowerWise: N; CompType: Temp Sensor IC; Published: 1-Mar-2010; DatasheetVersion: Feb-2010; PackageVersion: revG, Sep-2000; PackageReference: Z03A; Publisher: Altium Limited; PackageDescription: TO-92, Molded, 3 Lead; Supplier 1: Digi-Key; Supplier Part Number 1: LM60CIZ-ND; Supplier 2: Farnell; Supplier Part Number 2: 1254232; RoHS: Y; PinCount: 3; Code_JEDEC: TO-226-AA; ComponentLink1Description: LM60 Datasheet; ComponentLink1URL: http://www.national.com/ds/LM/LM60.pdf; ComponentLink2Description: LM60 Web Page; ComponentLink2URL: http://www.national.com/pf/LM/LM60.html; ComponentLink3Description: Z03A Package Page; ComponentLink3URL: http://www.national.com/packaging/folders/z03a.html
footprint Z03A (TO, Flat Index; 3 In-Line, Axial Leads; Body Dia. 5mm; Leads 0.55 x 0.50 mm (max))
pins: 1 +VS (in), 2 VO (out), 3 GND (power)

## LM61BIM3
designator U?
2.7V Temperature Sensor, 3-pin SOT-23; PartNumber: LM61BIM3; Manufacturer: National Semiconductor; PackageTopMarking: T1B*XTT; PowerWise: N; CompType: Temp Sensor IC; Published: 4-Dec-2008; DatasheetVersion: Feb-2010; PackageVersion: revB, Mar-2003; PackageReference: MF03A; Publisher: Altium Limited; PackageDescription: Molded SOT-23, .115 x .051 x .037in Body, 3 Lead, .075 in Pitch; Supplier 1: Digi-Key; Supplier Part Number 1: LM61BIM3TR-ND; Supplier 2: Digi-Key; Supplier Part Number 2: LM61BIM3CT-ND; Supplier 3: Digi-Key; Supplier Part Number 3: LM61BIM3DKR-ND; Supplier 4: Farnell; Supplier Part Number 4: 1197387; RoHS: N; PinCount: 3; ComponentLink1Description: LM61 Datasheet; ComponentLink1URL: http://www.national.com/ds/LM/LM61.pdf; ComponentLink2Description: LM61 Web Page; ComponentLink2URL: http://www.national.com/pf/LM/LM61.html; ComponentLink3Description: MF03A Package Page; ComponentLink3URL: http://www.national.com/packaging/folders/mf03a.html
footprint MF03A_N (SOT23, 3-Leads, Body 2.9x1.3mm, Pitch 0.95mm, Lead Span 2.4mm, IPC Medium Density)
footprint MF03A_L (SOT23, 3-Leads, Body 2.9x1.3mm, Pitch 0.95mm, Lead Span 2.4mm, IPC High Density)
footprint MF03A_M (SOT23, 3-Leads, Body 2.9x1.3mm, Pitch 0.95mm, Lead Span 2.4mm, IPC Low Density)
pins: 1 +VS (in), 2 VO (out), 3 GND (power)

## LM61BIM3X
designator U?
2.7V Temperature Sensor, 3-pin SOT-23; PartNumber: LM61BIM3X; Manufacturer: National Semiconductor; PackageTopMarking: T1B*XTT; PowerWise: N; CompType: Temp Sensor IC; Published: 1-Mar-2010; DatasheetVersion: Feb-2010; PackageVersion: revB, Mar-2003; PackageReference: MF03A; Publisher: Altium Limited; PackageDescription: Molded SOT-23, .115 x .051 x .037in Body, 3 Lead, .075 in Pitch; RoHS: N; PinCount: 3; ComponentLink1Description: LM61 Datasheet; ComponentLink1URL: http://www.national.com/ds/LM/LM61.pdf; ComponentLink2Description: LM61 Web Page; ComponentLink2URL: http://www.national.com/pf/LM/LM61.html; ComponentLink3Description: MF03A Package Page; ComponentLink3URL: http://www.national.com/packaging/folders/mf03a.html
footprint MF03A_N (SOT23, 3-Leads, Body 2.9x1.3mm, Pitch 0.95mm, Lead Span 2.4mm, IPC Medium Density)
footprint MF03A_L (SOT23, 3-Leads, Body 2.9x1.3mm, Pitch 0.95mm, Lead Span 2.4mm, IPC High Density)
footprint MF03A_M (SOT23, 3-Leads, Body 2.9x1.3mm, Pitch 0.95mm, Lead Span 2.4mm, IPC Low Density)
pins: 1 +VS (in), 2 VO (out), 3 GND (power)

## LM61BIZ
designator U?
2.7V Temperature Sensor, 3-pin TO-92; PartNumber: LM61BIZ; Manufacturer: National Semiconductor; PackageTopMarking: NSXYTT*LM61*BIZ; PowerWise: N; CompType: Temp Sensor IC; Published: 4-Dec-2008; LatestRevisionDate: 15-Jul-2009; LatestRevisionNote: Sch pins 1 & 3 reversed; DatasheetVersion: Feb-2010; PackageVersion: revG, Sep-2000; PackageReference: Z03A; Publisher: Altium Limited; PackageDescription: TO-92, Molded, 3 Lead; RoHS: N; PinCount: 3; Code_JEDEC: TO-226-AA; ComponentLink1Description: LM61 Datasheet; ComponentLink1URL: http://www.national.com/ds/LM/LM61.pdf; ComponentLink2Description: LM61 Web Page; ComponentLink2URL: http://www.national.com/pf/LM/LM61.html; ComponentLink3Description: Z03A Package Page; ComponentLink3URL: http://www.national.com/packaging/folders/z03a.html
footprint Z03A (TO, Flat Index; 3 In-Line, Axial Leads; Body Dia. 5mm; Leads 0.55 x 0.50 mm (max))
pins: 1 +VS (in), 2 VO (out), 3 GND (power)

## LM61BIZ/NOPB
designator U?
2.7V Temperature Sensor, 3-pin TO-92, Pb-Free; PartNumber: LM61BIZ/NOPB; Manufacturer: National Semiconductor; PackageTopMarking: NSXYTT*LM61*BIZ; PowerWise: N; CompType: Temp Sensor IC; Published: 1-Mar-2010; DatasheetVersion: Feb-2010; PackageVersion: revG, Sep-2000; PackageReference: Z03A; Publisher: Altium Limited; PackageDescription: TO-92, Molded, 3 Lead; Supplier 1: Digi-Key; Supplier Part Number 1: LM61BIZ-ND; Supplier 2: Farnell; Supplier Part Number 2: 1564767; RoHS: Y; PinCount: 3; Code_JEDEC: TO-226-AA; ComponentLink1Description: LM61 Datasheet; ComponentLink1URL: http://www.national.com/ds/LM/LM61.pdf; ComponentLink2Description: LM61 Web Page; ComponentLink2URL: http://www.national.com/pf/LM/LM61.html; ComponentLink3Description: Z03A Package Page; ComponentLink3URL: http://www.national.com/packaging/folders/z03a.html
footprint Z03A (TO, Flat Index; 3 In-Line, Axial Leads; Body Dia. 5mm; Leads 0.55 x 0.50 mm (max))
pins: 1 +VS (in), 2 VO (out), 3 GND (power)

## LM61CIM3
designator U?
2.7V Temperature Sensor, 3-pin SOT-23; PartNumber: LM61CIM3; Manufacturer: National Semiconductor; PackageTopMarking: T1C*XTT; PowerWise: N; CompType: Temp Sensor IC; Published: 4-Dec-2008; DatasheetVersion: Feb-2010; PackageVersion: revB, Mar-2003; PackageReference: MF03A; Publisher: Altium Limited; PackageDescription: Molded SOT-23, .115 x .051 x .037in Body, 3 Lead, .075 in Pitch; Supplier 1: Farnell; Supplier Part Number 1: 1197388; RoHS: N; PinCount: 3; ComponentLink1Description: LM61 Datasheet; ComponentLink1URL: http://www.national.com/ds/LM/LM61.pdf; ComponentLink2Description: LM61 Web Page; ComponentLink2URL: http://www.national.com/pf/LM/LM61.html; ComponentLink3Description: MF03A Package Page; ComponentLink3URL: http://www.national.com/packaging/folders/mf03a.html
footprint MF03A_N (SOT23, 3-Leads, Body 2.9x1.3mm, Pitch 0.95mm, Lead Span 2.4mm, IPC Medium Density)
footprint MF03A_L (SOT23, 3-Leads, Body 2.9x1.3mm, Pitch 0.95mm, Lead Span 2.4mm, IPC High Density)
footprint MF03A_M (SOT23, 3-Leads, Body 2.9x1.3mm, Pitch 0.95mm, Lead Span 2.4mm, IPC Low Density)
pins: 1 +VS (in), 2 VO (out), 3 GND (power)

## LM61CIM3/NOPB
designator U?
2.7V Temperature Sensor, 3-pin SOT-23, Pb-Free; PartNumber: LM61CIM3/NOPB; Manufacturer: National Semiconductor; PackageTopMarking: T1C*XTT; PowerWise: N; CompType: Temp Sensor IC; Published: 1-Mar-2010; DatasheetVersion: Feb-2010; PackageVersion: revB, Mar-2003; PackageReference: MF03A; Publisher: Altium Limited; PackageDescription: Molded SOT-23, .115 x .051 x .037in Body, 3 Lead, .075 in Pitch; Supplier 1: Digi-Key; Supplier Part Number 1: LM61CIM3TR-ND; Supplier 2: Digi-Key; Supplier Part Number 2: LM61CIM3CT-ND; Supplier 3: Digi-Key; Supplier Part Number 3: LM61CIM3DKR-ND; RoHS: Y; PinCount: 3; ComponentLink1Description: LM61 Datasheet; ComponentLink1URL: http://www.national.com/ds/LM/LM61.pdf; ComponentLink2Description: LM61 Web Page; ComponentLink2URL: http://www.national.com/pf/LM/LM61.html; ComponentLink3Description: MF03A Package Page; ComponentLink3URL: http://www.national.com/packaging/folders/mf03a.html
footprint MF03A_N (SOT23, 3-Leads, Body 2.9x1.3mm, Pitch 0.95mm, Lead Span 2.4mm, IPC Medium Density)
footprint MF03A_L (SOT23, 3-Leads, Body 2.9x1.3mm, Pitch 0.95mm, Lead Span 2.4mm, IPC High Density)
footprint MF03A_M (SOT23, 3-Leads, Body 2.9x1.3mm, Pitch 0.95mm, Lead Span 2.4mm, IPC Low Density)
pins: 1 +VS (in), 2 VO (out), 3 GND (power)

## LM61CIM3X
designator U?
2.7V Temperature Sensor, 3-pin SOT-23; PartNumber: LM61CIM3X; Manufacturer: National Semiconductor; PackageTopMarking: T1C*XTT; PowerWise: N; CompType: Temp Sensor IC; Published: 1-Mar-2010; DatasheetVersion: Feb-2010; PackageVersion: revB, Mar-2003; PackageReference: MF03A; Publisher: Altium Limited; PackageDescription: Molded SOT-23, .115 x .051 x .037in Body, 3 Lead, .075 in Pitch; RoHS: N; PinCount: 3; ComponentLink1Description: LM61 Datasheet; ComponentLink1URL: http://www.national.com/ds/LM/LM61.pdf; ComponentLink2Description: LM61 Web Page; ComponentLink2URL: http://www.national.com/pf/LM/LM61.html; ComponentLink3Description: MF03A Package Page; ComponentLink3URL: http://www.national.com/packaging/folders/mf03a.html
footprint MF03A_N (SOT23, 3-Leads, Body 2.9x1.3mm, Pitch 0.95mm, Lead Span 2.4mm, IPC Medium Density)
footprint MF03A_L (SOT23, 3-Leads, Body 2.9x1.3mm, Pitch 0.95mm, Lead Span 2.4mm, IPC High Density)
footprint MF03A_M (SOT23, 3-Leads, Body 2.9x1.3mm, Pitch 0.95mm, Lead Span 2.4mm, IPC Low Density)
pins: 1 +VS (in), 2 VO (out), 3 GND (power)

## LM61CIM3X/NOPB
designator U?
2.7V Temperature Sensor, 3-pin SOT-23, Pb-Free; PartNumber: LM61CIM3X/NOPB; Manufacturer: National Semiconductor; PackageTopMarking: T1C*XTT; PowerWise: N; CompType: Temp Sensor IC; Published: 1-Mar-2010; DatasheetVersion: Feb-2010; PackageVersion: revB, Mar-2003; PackageReference: MF03A; Publisher: Altium Limited; PackageDescription: Molded SOT-23, .115 x .051 x .037in Body, 3 Lead, .075 in Pitch; Supplier 1: Digi-Key; Supplier Part Number 1: LM61CIM3X-ND; Supplier 2: Farnell; Supplier Part Number 2: 1634917; RoHS: Y; PinCount: 3; ComponentLink1Description: LM61 Datasheet; ComponentLink1URL: http://www.national.com/ds/LM/LM61.pdf; ComponentLink2Description: LM61 Web Page; ComponentLink2URL: http://www.national.com/pf/LM/LM61.html; ComponentLink3Description: MF03A Package Page; ComponentLink3URL: http://www.national.com/packaging/folders/mf03a.html
footprint MF03A_N (SOT23, 3-Leads, Body 2.9x1.3mm, Pitch 0.95mm, Lead Span 2.4mm, IPC Medium Density)
footprint MF03A_L (SOT23, 3-Leads, Body 2.9x1.3mm, Pitch 0.95mm, Lead Span 2.4mm, IPC High Density)
footprint MF03A_M (SOT23, 3-Leads, Body 2.9x1.3mm, Pitch 0.95mm, Lead Span 2.4mm, IPC Low Density)
pins: 1 +VS (in), 2 VO (out), 3 GND (power)

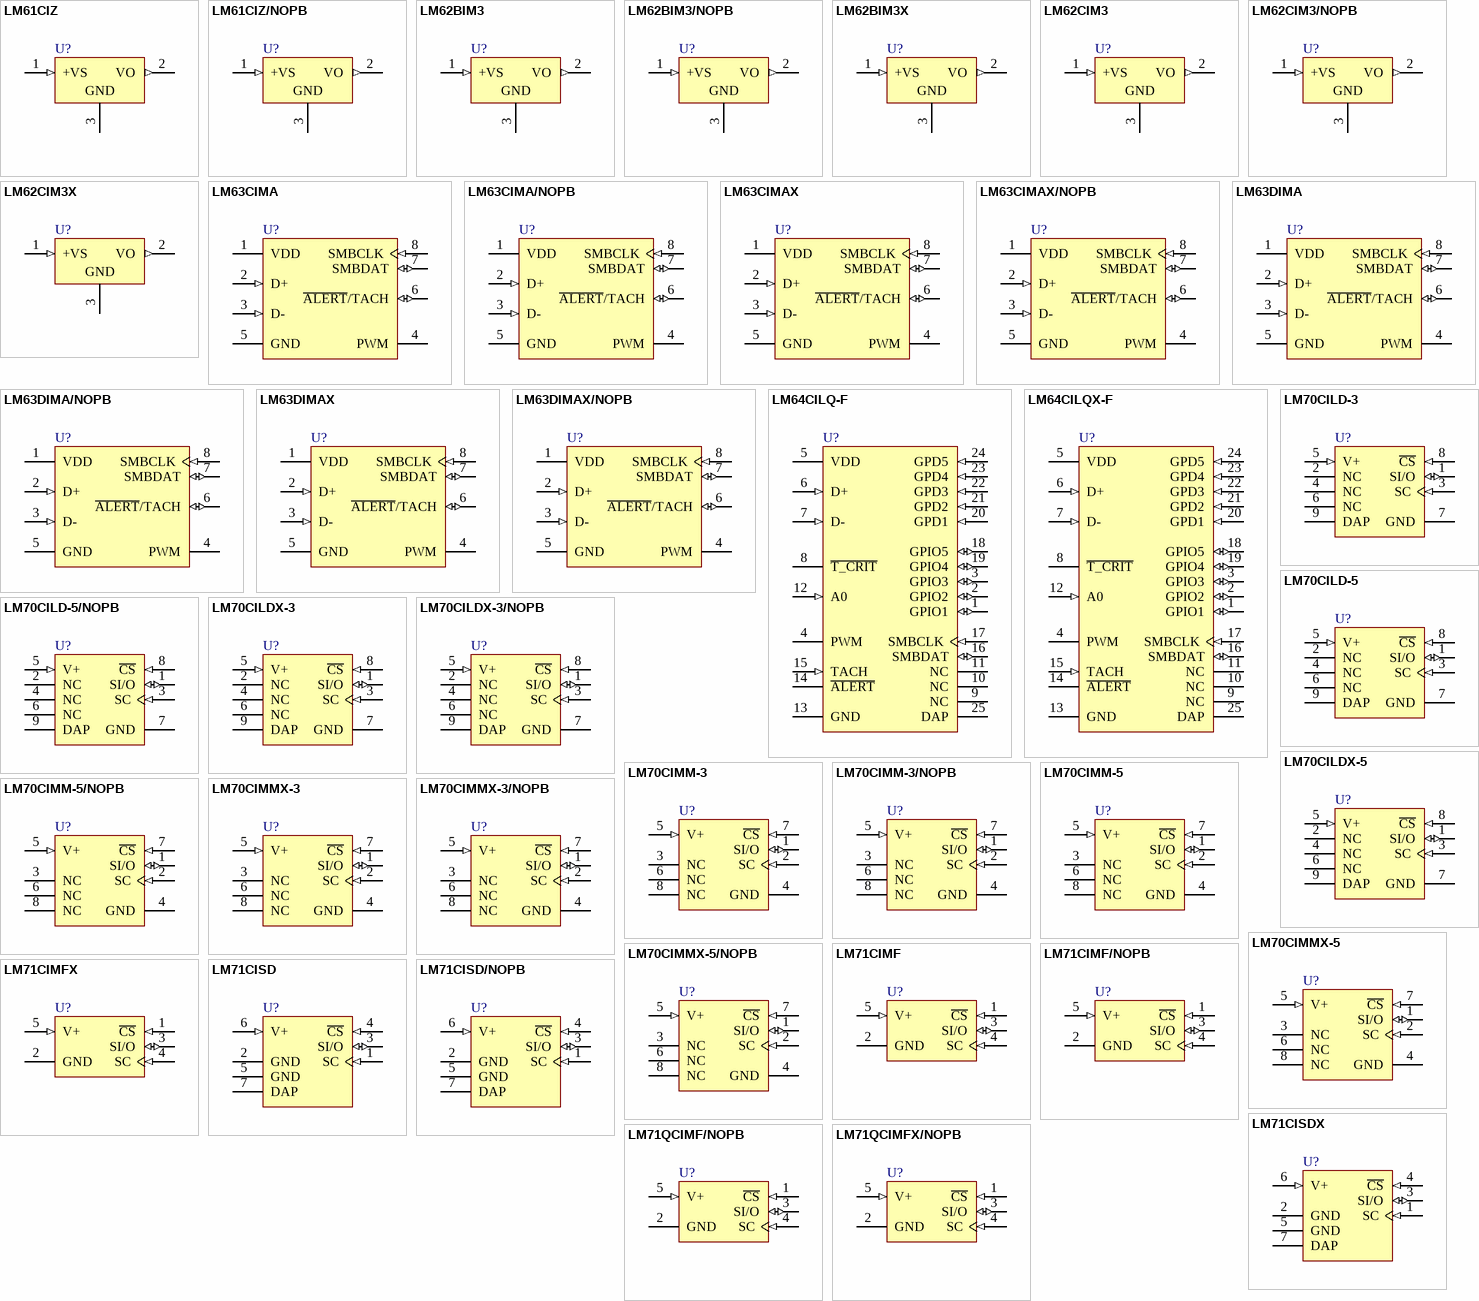
[diagram p3: symbols LM61CIZ to LM71QCIMFX/NOPB]

## LM61CIZ
designator U?
2.7V Temperature Sensor, 3-pin TO-92; PartNumber: LM61CIZ; Manufacturer: National Semiconductor; PackageTopMarking: NSXYTT*LM61*CIZ; PowerWise: N; CompType: Temp Sensor IC; Published: 4-Dec-2008; LatestRevisionDate: 15-Jul-2009; LatestRevisionNote: Sch pins 1 & 3 reversed; DatasheetVersion: Feb-2010; PackageVersion: revG, Sep-2000; PackageReference: Z03A; Publisher: Altium Limited; PackageDescription: TO-92, Molded, 3 Lead; Supplier 1: Digi-Key; Supplier Part Number 1: LM61CIZ-ND; Supplier 2: Farnell; Supplier Part Number 2: 7612291; RoHS: N; PinCount: 3; Code_JEDEC: TO-226-AA; ComponentLink1Description: LM61 Datasheet; ComponentLink1URL: http://www.national.com/ds/LM/LM61.pdf; ComponentLink2Description: LM61 Web Page; ComponentLink2URL: http://www.national.com/pf/LM/LM61.html; ComponentLink3Description: Z03A Package Page; ComponentLink3URL: http://www.national.com/packaging/folders/z03a.html
footprint Z03A (TO, Flat Index; 3 In-Line, Axial Leads; Body Dia. 5mm; Leads 0.55 x 0.50 mm (max))
pins: 1 +VS (in), 2 VO (out), 3 GND (power)

## LM61CIZ/NOPB
designator U?
2.7V Temperature Sensor, 3-pin TO-92, Pb-Free; PartNumber: LM61CIZ/NOPB; Manufacturer: National Semiconductor; PackageTopMarking: NSXYTT*LM61*CIZ; PowerWise: N; CompType: Temp Sensor IC; Published: 1-Mar-2010; DatasheetVersion: Feb-2010; PackageVersion: revG, Sep-2000; PackageReference: Z03A; Publisher: Altium Limited; PackageDescription: TO-92, Molded, 3 Lead; Supplier 1: Digi-Key; Supplier Part Number 1: LM61CIZ/NOPB-ND; RoHS: Y; PinCount: 3; Code_JEDEC: TO-226-AA; ComponentLink1Description: LM61 Datasheet; ComponentLink1URL: http://www.national.com/ds/LM/LM61.pdf; ComponentLink2Description: LM61 Web Page; ComponentLink2URL: http://www.national.com/pf/LM/LM61.html; ComponentLink3Description: Z03A Package Page; ComponentLink3URL: http://www.national.com/packaging/folders/z03a.html
footprint Z03A (TO, Flat Index; 3 In-Line, Axial Leads; Body Dia. 5mm; Leads 0.55 x 0.50 mm (max))
pins: 1 +VS (in), 2 VO (out), 3 GND (power)

## LM62BIM3
designator U?
2.7V, 15.6mV/°C, Temperature Sensor, 3-pin SOT-23; PartNumber: LM62BIM3; Manufacturer: National Semiconductor; PackageTopMarking: T7B*XTT; PowerWise: N; CompType: Temp Sensor IC; Published: 4-Dec-2008; DatasheetVersion: Feb-2010; PackageVersion: revB, Mar-2003; PackageReference: MF03A; Publisher: Altium Limited; PackageDescription: Molded SOT-23, .115 x .051 x .037in Body, 3 Lead, .075 in Pitch; Supplier 1: Digi-Key; Supplier Part Number 1: LM62BIM3TR-ND; Supplier 2: Digi-Key; Supplier Part Number 2: LM62BIM3CT-ND; Supplier 3: Farnell; Supplier Part Number 3: 1798368; RoHS: N; PinCount: 3; ComponentLink1Description: LM62 Datasheet; ComponentLink1URL: http://www.national.com/ds/LM/LM62.pdf; ComponentLink2Description: LM62 Web Page; ComponentLink2URL: http://www.national.com/pf/LM/LM62.html; ComponentLink3Description: MF03A Package Page; ComponentLink3URL: http://www.national.com/packaging/folders/mf03a.html
footprint MF03A_N (SOT23, 3-Leads, Body 2.9x1.3mm, Pitch 0.95mm, Lead Span 2.4mm, IPC Medium Density)
footprint MF03A_L (SOT23, 3-Leads, Body 2.9x1.3mm, Pitch 0.95mm, Lead Span 2.4mm, IPC High Density)
footprint MF03A_M (SOT23, 3-Leads, Body 2.9x1.3mm, Pitch 0.95mm, Lead Span 2.4mm, IPC Low Density)
pins: 1 +VS (in), 2 VO (out), 3 GND (power)

## LM62BIM3/NOPB
designator U?
2.7V, 15.6mV/°C, Temperature Sensor, 3-pin SOT-23, Pb-Free; PartNumber: LM62BIM3/NOPB; Manufacturer: National Semiconductor; PackageTopMarking: T7B*XTT; PowerWise: N; CompType: Temp Sensor IC; Published: 1-Mar-2010; DatasheetVersion: Feb-2010; PackageVersion: revB, Mar-2003; PackageReference: MF03A; Publisher: Altium Limited; PackageDescription: Molded SOT-23, .115 x .051 x .037in Body, 3 Lead, .075 in Pitch; Supplier 1: Digi-Key; Supplier Part Number 1: LM62BIM3/NOPBTR-ND; Supplier 2: Digi-Key; Supplier Part Number 2: LM62BIM3/NOPBCT-ND; Supplier 3: Digi-Key; Supplier Part Number 3: LM62BIM3/NOPBDKR-ND; Supplier 4: Farnell; Supplier Part Number 4: 1360207; RoHS: Y; PinCount: 3; ComponentLink1Description: LM62 Datasheet; ComponentLink1URL: http://www.national.com/ds/LM/LM62.pdf; ComponentLink2Description: LM62 Web Page; ComponentLink2URL: http://www.national.com/pf/LM/LM62.html; ComponentLink3Description: MF03A Package Page; ComponentLink3URL: http://www.national.com/packaging/folders/mf03a.html
footprint MF03A_N (SOT23, 3-Leads, Body 2.9x1.3mm, Pitch 0.95mm, Lead Span 2.4mm, IPC Medium Density)
footprint MF03A_L (SOT23, 3-Leads, Body 2.9x1.3mm, Pitch 0.95mm, Lead Span 2.4mm, IPC High Density)
footprint MF03A_M (SOT23, 3-Leads, Body 2.9x1.3mm, Pitch 0.95mm, Lead Span 2.4mm, IPC Low Density)
pins: 1 +VS (in), 2 VO (out), 3 GND (power)

## LM62BIM3X
designator U?
2.7V, 15.6mV/°C, Temperature Sensor, 3-pin SOT-23; PartNumber: LM62BIM3X; Manufacturer: National Semiconductor; PackageTopMarking: T7B*XTT; PowerWise: N; CompType: Temp Sensor IC; Published: 1-Mar-2010; DatasheetVersion: Feb-2010; PackageVersion: revB, Mar-2003; PackageReference: MF03A; Publisher: Altium Limited; PackageDescription: Molded SOT-23, .115 x .051 x .037in Body, 3 Lead, .075 in Pitch; Supplier 1: Digi-Key; Supplier Part Number 1: LM62BIM3X-ND; RoHS: N; PinCount: 3; ComponentLink1Description: LM62 Datasheet; ComponentLink1URL: http://www.national.com/ds/LM/LM62.pdf; ComponentLink2Description: LM62 Web Page; ComponentLink2URL: http://www.national.com/pf/LM/LM62.html; ComponentLink3Description: MF03A Package Page; ComponentLink3URL: http://www.national.com/packaging/folders/mf03a.html
footprint MF03A_N (SOT23, 3-Leads, Body 2.9x1.3mm, Pitch 0.95mm, Lead Span 2.4mm, IPC Medium Density)
footprint MF03A_L (SOT23, 3-Leads, Body 2.9x1.3mm, Pitch 0.95mm, Lead Span 2.4mm, IPC High Density)
footprint MF03A_M (SOT23, 3-Leads, Body 2.9x1.3mm, Pitch 0.95mm, Lead Span 2.4mm, IPC Low Density)
pins: 1 +VS (in), 2 VO (out), 3 GND (power)